# EAGLE library part MOSFET-N_DUAL (library isystems)
Dual N-Channel MOSFET SOT363 (2.0x1.25mm) 2N7002PS - 60V, 320mA [Digikey: 568-5984-1-ND]
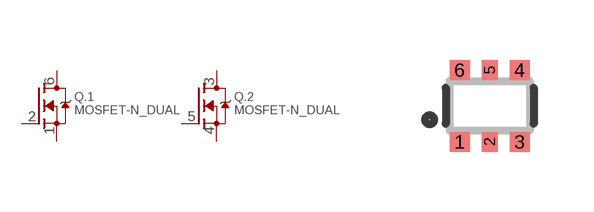
[diagram p46: symbol with the pads of SOT363; footprint SOT363]

Designator prefix Q; gates .1=MOSFET-N .2=MOSFET-N

## MOSFET-N_DUAL  [SOT363]
1  .1:S
2  .1:G
3  .2:D
4  .2:S
5  .2:G
6  .1:D

## Footprint SOT363 (pad centres in mm)
Source: http://www.nxp.com/documents/data_sheet/2N7002PS.pdf
smd 0.5 x 0.5: 1 -0.75,-0.9; 3 0.75,-0.9; 4 0.75,0.9; 6 -0.75,0.9
smd 0.4 x 0.5: 2 0,-0.9; 5 0,0.9